# Altium footprint library LGA-12(2.0X2.0).PcbLib: 1 footprints
Each footprint in its own frame and in the unit in brackets; x right, y up, seen from the top. Pads: shape width x height; smd on the part's side, far side on the other; paste and mask are expansions set on the pad; w line width, h text height; cw(c..) or ccw(c..) is an arc to the next point about the centre after c.
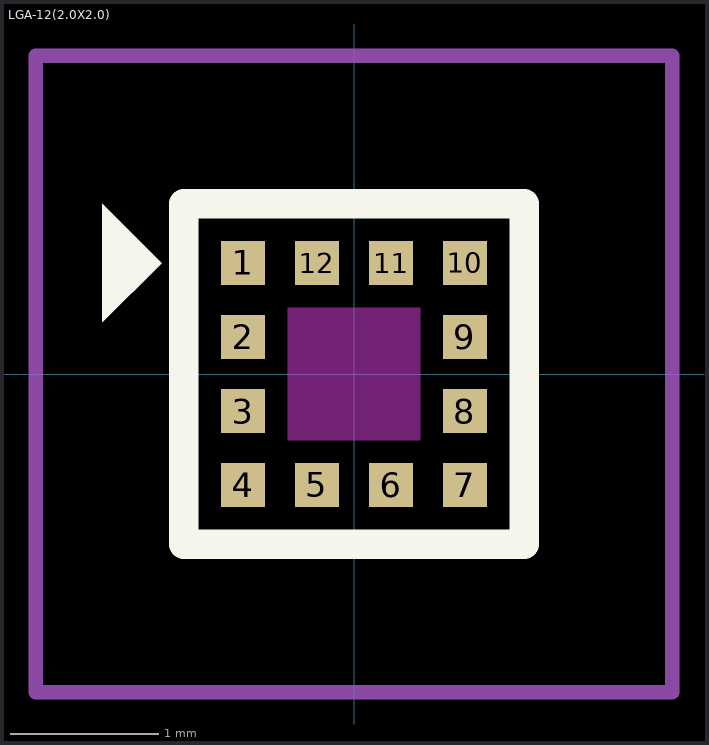
[diagram p0: the footprint, top view; thin cyan lines are the x and y axes]

## LGA-12(2.0X2.0) [mm]
pads (12):
  rect 0.3x0.3 smd paste+0 mask+0.102: 1(-0.75,0.75) 2(-0.75,0.25) 3(-0.75,-0.25) 4(-0.75,-0.75) 5(-0.25,-0.75) 6(0.25,-0.75) 7(0.75,-0.75) 8(0.75,-0.25) 9(0.75,0.25) 10(0.75,0.75) 11(0.25,0.75) 12(-0.25,0.75)
Top Layer keep-out:
  rectangle: -0.45,-0.45 0.45,0.45
Top Overlay:
  region: -1.7,0.35 -1.7,1.15 -1.3,0.75
  lines w0.2: -1.15,-1.15 -1.15,1.15 1.15,1.15 1.15,-1.15 -1.15,-1.15
Top Courtyard:
  lines w0.1: -2.15,-2.15 -2.15,2.15 2.15,2.15 2.15,-2.15 -1.15,-2.15 -2.15,-2.15
3D body "SON_03AGRTR_STM.step": height 0.99, standoff 0, extent -1.003,-1.003 1.003,1.003